# Altium footprint library SON.PcbLib: 52 footprints (part 3 of 4)
Each footprint in its own frame and in the unit in brackets; x right, y up, seen from the top. Pads: shape width x height; smd on the part's side, far side on the other; paste and mask are expansions set on the pad; w line width, h text height; cw(c..) or ccw(c..) is an arc to the next point about the centre after c.
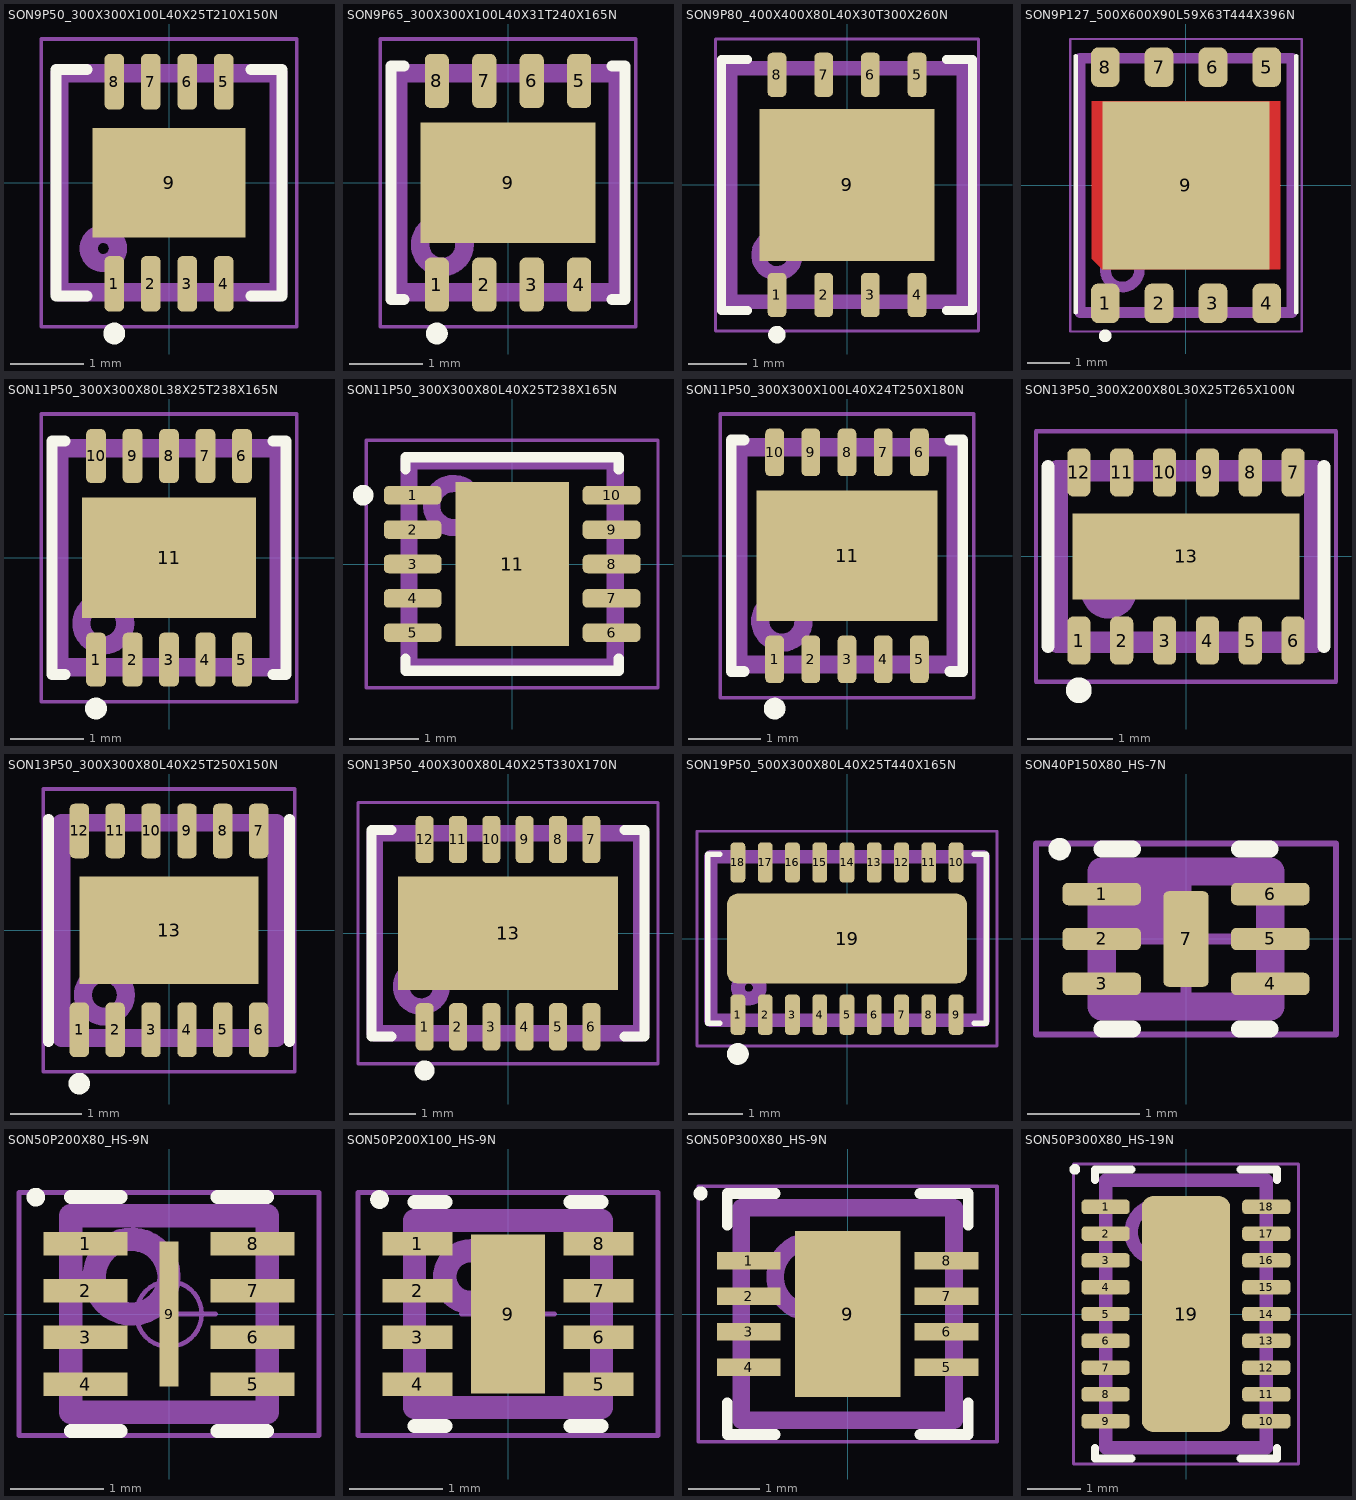
[diagram p2: the footprints below, top view; thin cyan lines are the x and y axes]

## SON9P50_300X300X100L40X25T210X150N [mm] "Small Outline No-Lead (SON with Tab), 0.50 mm pitch; 8 pin, 3.00 mm L X 3.00 mm W X 1.00 mm H body"
height 1
pads (9):
  rrect52% 0.27x0.76 smd: 1(-0.75,-1.385) 2(-0.25,-1.385) 3(0.25,-1.385) 4(0.75,-1.385) 5(0.75,1.385) 6(0.25,1.385) 7(-0.25,1.385) 8(-0.75,1.385)
  rect 2.1x1.5 smd paste-2.1: 9(0,0)
Top Overlay:
  circle w0.15: c-0.75,-2.065 r0.075
  lines w0.15: -1.125,-1.55 -1.55,-1.55 -1.55,1.55 -1.125,1.55 ; 1.125,-1.55 1.55,-1.55 1.55,1.55 1.125,1.55
Top Paste:
  region: -0.11,0.11 -0.94,0.11 -0.94,0.64 -0.11,0.64
  region: -0.11,-0.64 -0.94,-0.64 -0.94,-0.11 -0.11,-0.11
  region: 0.94,0.11 0.11,0.11 0.11,0.64 0.94,0.64
  region: 0.94,-0.64 0.11,-0.64 0.11,-0.11 0.94,-0.11
Top Assembly:
  circle w0.25: c-0.9,-0.9 r0.2
  lines w0.25: -1.5,-1.5 1.5,-1.5 1.5,1.5 -1.5,1.5 -1.5,-1.5
  text ".Designator" at -3.378,-0.339 h1.5
Top Courtyard:
  circle w0.05: c0,0 r0.25
  lines w0.05: -0.35,0 0.35,0 ; 0,-0.35 0,0.35 ; -1.75,-1.97 1.75,-1.97 1.75,1.97 -1.75,1.97 -1.75,-1.97
3D body "SON9P50_300X300X100L40X25T210X150.STEP": height 1, standoff 0, extent -1.5,-1.55 1.5,1.55

## SON9P65_300X300X100L40X31T240X165N [mm] "Small Outline No-Lead (SON with Tab), 0.65 mm pitch; 8 pin, 3.00 mm L X 3.00 mm W X 1.00 mm H body"
height 1
pads (9):
  rrect48% 0.33x0.74 smd: 1(-0.975,-1.395) 2(-0.325,-1.395) 3(0.325,-1.395) 4(0.975,-1.395) 5(0.975,1.395) 6(0.325,1.395) 7(-0.325,1.395) 8(-0.975,1.395)
  rect 2.4x1.65 smd paste-2.4: 9(0,0)
Top Overlay:
  circle w0.15: c-0.975,-2.065 r0.075
  lines w0.15: -1.425,-1.6 -1.6,-1.6 -1.6,1.6 -1.425,1.6 ; 1.425,-1.6 1.6,-1.6 1.6,1.6 1.425,1.6
Top Paste:
  region: 1.08,-0.7 0.12,-0.7 0.12,-0.12 1.08,-0.12
  region: 1.08,0.12 0.12,0.12 0.12,0.7 1.08,0.7
  region: -0.12,-0.7 -1.08,-0.7 -1.08,-0.12 -0.12,-0.12
  region: -0.12,0.12 -1.08,0.12 -1.08,0.7 -0.12,0.7
Top Assembly:
  circle w0.254: c-0.9,-0.85 r0.304
  lines w0.25: -1.5,-1.5 -1.5,1.5 1.5,1.5 1.5,-1.5 -1.5,-1.5
  text ".Designator" at -3.378,-0.339 h1.5
Top Courtyard:
  circle w0.05: c0,0 r0.25
  lines w0.05: -0.35,0 0.35,0 ; 0,-0.35 0,0.35 ; -1.75,-1.97 -1.75,1.97 1.75,1.97 1.75,-1.97 -1.75,-1.97
3D body "SON9P65_300X300X100L40X31T240X165.STEP": height 1, standoff 0, extent -1.5,-1.55 1.5,1.55

## SON9P80_400X400X80L40X30T300X260N [mm] "Small Outline No-Lead (SON with Tab), 0.80 mm pitch; 8 pin, 4.00 mm L X 4.00 mm W X 0.80 mm H body"
height 0.8
pads (9):
  rrect50% 0.32x0.76 smd: 1(-1.2,-1.885) 2(-0.4,-1.885) 3(0.4,-1.885) 4(1.2,-1.885) 5(1.2,1.885) 6(0.4,1.885) 7(-0.4,1.885) 8(-1.2,1.885)
  rect 3x2.6 smd paste-3: 9(0,0)
Top Overlay:
  circle w0.15: c-1.2,-2.565 r0.075
  lines w0.15: -1.7,-2.15 -2.15,-2.15 -2.15,2.15 -1.7,2.15 ; 1.7,-2.15 2.15,-2.15 2.15,2.15 1.7,2.15
Top Paste:
  region: -0.19,0.19 -1.31,0.19 -1.31,1.11 -0.19,1.11
  region: -0.19,-1.11 -1.31,-1.11 -1.31,-0.19 -0.19,-0.19
  region: 1.31,0.19 0.19,0.19 0.19,1.11 1.31,1.11
  region: 1.31,-1.11 0.19,-1.11 0.19,-0.19 1.31,-0.19
Top Assembly:
  circle w0.25: c-1.2,-1.2 r0.316
  lines w0.25: -2,-2 2,-2 2,2 -2,2 -2,-2
  text ".Designator" at -3.378,-0.339 h1.5
Top Courtyard:
  circle w0.05: c0,0 r0.25
  lines w0.05: -0.35,0 0.35,0 ; 0,-0.35 0,0.35 ; -2.25,-2.5 2.25,-2.5 2.25,2.5 -2.25,2.5 -2.25,-2.5
3D body "SON9P80_400X400X80L40X30T300X260.STEP": height 0.8, standoff 0, extent -2,-2.05 2,2.05

## SON9P127_500X600X90L59X63T444X396N [mm] "Small Outline No-Lead (SON with Tab), 1.27 mm pitch; 8 pin, 5.00 mm L X 6.00 mm W X 0.90 mm H body"
height 0.9
pads (9):
  rrect50% 0.68x0.93 smd: 1(-1.905,-2.785) 2(-0.635,-2.785) 3(0.635,-2.785) 4(1.905,-2.785) 5(1.905,2.785) 6(0.635,2.785) 7(-0.635,2.785) 8(-1.905,2.785)
  rect 3.945x3.962 smd paste-3.962 mask-3.962: 9(0,0)
Top Layer:
  region: 2.222,-1.981 -1.973,-1.981 -2.222,-1.731 -2.222,1.981 2.222,1.981
Top Overlay:
  circle w0.15: c-1.905,-3.55 r0.075
  lines w0.1: -2.6,-3 -2.6,3.05 ; 2.6,-3 2.6,3.05
Top Paste:
  region: 1.915,-1.675 0.305,-1.675 0.305,-0.305 1.915,-0.305
  region: 1.915,0.305 0.305,0.305 0.305,1.675 1.915,1.675
  region: -0.305,-1.675 -1.915,-1.675 -1.915,-0.305 -0.305,-0.305
  region: -0.305,0.305 -1.915,0.305 -1.915,1.675 -0.305,1.675
Top Solder:
  region: 2.222,-1.981 -1.973,-1.981 -2.222,-1.731 -2.222,1.981 2.222,1.981
Top Assembly:
  circle w0.25: c-1.5,-2 r0.4
  lines w0.25: -2.5,-3 -2.5,3 2.5,3 2.5,-3 -2.5,-3
  text ".Designator" at -2.2,-0.3 h1.5
Top Courtyard:
  circle w0.05: c0,0 r0.25
  lines w0.05: -0.35,0 0.35,0 ; 0,-0.35 0,0.35 ; -2.73,-3.45 -2.73,3.45 2.73,3.45 2.73,-3.45 -2.73,-3.45
3D body "SON9P127_500X600X90L59X63T444X396.STEP": height 0.9, standoff 0, extent -2.5,-3.05 2.5,3.05

## SON11P50_300X300X80L38X25T238X165N [mm] "Small Outline No-Lead (SON with Tab), 0.50 mm pitch; 10 pin, 3.00 mm L X 3.00 mm W X 0.80 mm H body"
height 0.8
pads (11):
  rrect52% 0.27x0.74 smd: 1(-1,-1.395) 2(-0.5,-1.395) 3(0,-1.395) 4(0.5,-1.395) 5(1,-1.395) 6(1,1.395) 7(0.5,1.395) 8(0,1.395) 9(-0.5,1.395) 10(-1,1.395)
  rect 2.38x1.65 smd paste-2.38: 11(0,0)
Top Overlay:
  circle w0.15: c-1,-2.065 r0.075
  lines w0.15: -1.425,-1.6 -1.6,-1.6 -1.6,1.6 -1.425,1.6 ; 1.425,-1.6 1.6,-1.6 1.6,1.6 1.425,1.6
Top Paste:
  region: -0.12,0.12 -1.07,0.12 -1.07,0.7 -0.12,0.7
  region: -0.12,-0.7 -1.07,-0.7 -1.07,-0.12 -0.12,-0.12
  region: 1.07,0.12 0.12,0.12 0.12,0.7 1.07,0.7
  region: 1.07,-0.7 0.12,-0.7 0.12,-0.12 1.07,-0.12
Top Assembly:
  circle w0.25: c-0.9,-0.9 r0.3
  lines w0.25: -1.5,-1.5 1.5,-1.5 1.5,1.5 -1.5,1.5 -1.5,-1.5
  text ".Designator" at -3.378,-0.339 h1.5
Top Courtyard:
  circle w0.05: c0,0 r0.25
  lines w0.05: -0.35,0 0.35,0 ; 0,-0.35 0,0.35 ; -1.75,-1.97 1.75,-1.97 1.75,1.97 -1.75,1.97 -1.75,-1.97
3D body "SON11P50_300X300X80L38X25T238X165.STEP": height 0.8, standoff 0, extent -1.5,-1.55 1.5,1.55

## SON11P50_300X300X80L40X25T238X165N [mm] "Small Outline No-Lead (SON with Tab), 0.50 mm pitch; 10 pin, 3.00 mm L X 3.00 mm W X 0.80 mm H body"
height 0.8
pads (11):
  rrect52% 0.84x0.27 smd: 1(-1.445,1) 2(-1.445,0.5) 3(-1.445,0) 4(-1.445,-0.5) 5(-1.445,-1) 6(1.445,-1) 7(1.445,-0.5) 8(1.445,0) 9(1.445,0.5) 10(1.445,1)
  rect 1.65x2.38 smd paste-2.38: 11(0,0)
Top Overlay:
  circle w0.15: c-2.165,1 r0.075
  lines w0.15: -1.55,-1.375 -1.55,-1.55 1.55,-1.55 1.55,-1.375 ; -1.55,1.375 -1.55,1.55 1.55,1.55 1.55,1.375
Top Paste:
  region: 0.12,0.12 0.12,1.07 0.7,1.07 0.7,0.12
  region: -0.7,0.12 -0.7,1.07 -0.12,1.07 -0.12,0.12
  region: 0.12,-1.07 0.12,-0.12 0.7,-0.12 0.7,-1.07
  region: -0.7,-1.07 -0.7,-0.12 -0.12,-0.12 -0.12,-1.07
Top Assembly:
  circle w0.25: c-0.85,0.85 r0.32
  lines w0.25: -1.5,-1.5 1.5,-1.5 1.5,1.5 -1.5,1.5 -1.5,-1.5
  text ".Designator" at -3.378,-0.339 h1.5
Top Courtyard:
  circle w0.05: c0,0 r0.25
  lines w0.05: -0.35,0 0.35,0 ; 0,-0.35 0,0.35 ; -2.12,-1.8 2.12,-1.8 2.12,1.8 -2.12,1.8 -2.12,-1.8
3D body "SON11P50_300X300X80L40X25T238X165.STEP": height 0.8, standoff 0, extent -1.55,-1.5 1.55,1.5

## SON11P50_300X300X100L40X24T250X180N [mm] "Small Outline No-Lead (SON with Tab), 0.50 mm pitch; 10 pin, 3.00 mm L X 3.00 mm W X 1.00 mm H body"
height 1
pads (11):
  rrect54% 0.26x0.66 smd: 1(-1,-1.43) 2(-0.5,-1.43) 3(0,-1.43) 4(0.5,-1.43) 5(1,-1.43) 6(1,1.43) 7(0.5,1.43) 8(0,1.43) 9(-0.5,1.43) 10(-1,1.43)
  rect 2.5x1.8 smd paste-2.5: 11(0,0)
Top Overlay:
  circle w0.15: c-1,-2.11 r0.075
  lines w0.15: -1.425,-1.6 -1.6,-1.6 -1.6,1.6 -1.425,1.6 ; 1.425,-1.6 1.6,-1.6 1.6,1.6 1.425,1.6
Top Paste:
  region: -0.13,0.13 -1.12,0.13 -1.12,0.77 -0.13,0.77
  region: -0.13,-0.77 -1.12,-0.77 -1.12,-0.13 -0.13,-0.13
  region: 1.12,0.13 0.13,0.13 0.13,0.77 1.12,0.77
  region: 1.12,-0.77 0.13,-0.77 0.13,-0.13 1.12,-0.13
Top Assembly:
  circle w0.25: c-0.9,-0.9 r0.3
  lines w0.25: -1.5,-1.5 1.5,-1.5 1.5,1.5 -1.5,1.5 -1.5,-1.5
  text ".Designator" at -3.378,-0.339 h1.5
Top Courtyard:
  circle w0.05: c0,0 r0.25
  lines w0.05: -0.35,0 0.35,0 ; 0,-0.35 0,0.35 ; -1.75,-1.96 1.75,-1.96 1.75,1.96 -1.75,1.96 -1.75,-1.96
3D body "SON11P50_300X300X100L40X24T250X180.STEP": height 1, standoff 0, extent -1.5,-1.55 1.5,1.55

## SON13P50_300X200X80L30X25T265X100N [mm] "Small Outline No-Lead (SON with Tab), 0.50 mm pitch; 12 pin, 3.00 mm L X 2.00 mm W X 0.80 mm H body"
height 0.8
pads (13):
  rrect52% 0.27x0.56 smd: 1(-1.25,-0.98) 2(-0.75,-0.98) 3(-0.25,-0.98) 4(0.25,-0.98) 5(0.75,-0.98) 6(1.25,-0.98) 7(1.25,0.98) 8(0.75,0.98) 9(0.25,0.98) 10(-0.25,0.98) 11(-0.75,0.98) 12(-1.25,0.98)
  rect 2.65x1 smd paste-2.65: 13(0,0)
Top Overlay:
  circle w0.15: c-1.25,-1.56 r0.075
  lines w0.15: -1.61,-1.05 -1.61,1.05 ; 1.61,-1.05 1.61,1.05
Top Paste:
  region: 1.255,-0.355 0.075,-0.355 0.075,0.355 1.255,0.355
  region: -0.075,-0.355 -1.255,-0.355 -1.255,0.355 -0.075,0.355
Top Assembly:
  circle w0.25: c-0.9,-0.4 r0.2
  lines w0.25: -1.5,-1 -1.5,1 1.5,1 1.5,-1 -1.5,-1
  text ".Designator" at 0,0 h1.5
Top Courtyard:
  circle w0.05: c0,0 r0.25
  lines w0.05: -0.35,0 0.35,0 ; 0,-0.35 0,0.35 ; -1.75,-1.46 -1.75,1.46 1.75,1.46 1.75,-1.46 -1.75,-1.46
3D body "SON13P50_300X200X80L30X25T265X100.STEP": height 0.8, standoff 0, extent -1.5,-1.05 1.5,1.05

## SON13P50_300X300X80L40X25T250X150N [mm] "Small Outline No-Lead (SON with Tab), 0.50 mm pitch; 12 pin, 3.00 mm L X 3.00 mm W X 0.80 mm H body"
height 0.8
pads (13):
  rrect52% 0.27x0.76 smd: 1(-1.25,-1.385) 2(-0.75,-1.385) 3(-0.25,-1.385) 4(0.25,-1.385) 5(0.75,-1.385) 6(1.25,-1.385) 7(1.25,1.385) 8(0.75,1.385) 9(0.25,1.385) 10(-0.25,1.385) 11(-0.75,1.385) 12(-1.25,1.385)
  rect 2.5x1.5 smd paste-2.5: 13(0,0)
Top Overlay:
  circle w0.15: c-1.25,-2.135 r0.075
  lines w0.15: -1.68,-1.55 -1.68,1.55 ; 1.68,-1.55 1.68,1.55
Top Paste:
  region: 1.14,-0.64 0.11,-0.64 0.11,-0.11 1.14,-0.11
  region: 1.14,0.11 0.11,0.11 0.11,0.64 1.14,0.64
  region: -0.11,-0.64 -1.14,-0.64 -1.14,-0.11 -0.11,-0.11
  region: -0.11,0.11 -1.14,0.11 -1.14,0.64 -0.11,0.64
Top Assembly:
  circle w0.25: c-0.9,-0.9 r0.3
  lines w0.25: -1.5,-1.5 -1.5,1.5 1.5,1.5 1.5,-1.5 -1.5,-1.5
  text ".Designator" at -3.378,-0.339 h1.5
Top Courtyard:
  circle w0.05: c0,0 r0.25
  lines w0.05: -0.35,0 0.35,0 ; 0,-0.35 0,0.35 ; -1.75,-1.97 -1.75,1.97 1.75,1.97 1.75,-1.97 -1.75,-1.97
3D body "SON13P50_300X300X80L40X25T250X150.STEP": height 0.8, standoff 0, extent -1.5,-1.55 1.5,1.55

## SON13P50_400X300X80L40X25T330X170N [mm] "Small Outline No-Lead (SON with Tab), 0.50 mm pitch; 12 pin, 4.00 mm L X 3.00 mm W X 0.80 mm H body"
height 0.8
pads (13):
  rrect52% 0.27x0.71 smd: 1(-1.25,-1.405) 2(-0.75,-1.405) 3(-0.25,-1.405) 4(0.25,-1.405) 5(0.75,-1.405) 6(1.25,-1.405) 7(1.25,1.405) 8(0.75,1.405) 9(0.25,1.405) 10(-0.25,1.405) 11(-0.75,1.405) 12(-1.25,1.405)
  rect 3.3x1.7 smd paste-3.3: 13(0,0)
Top Overlay:
  circle w0.15: c-1.25,-2.06 r0.075
  lines w0.15: -1.75,-1.55 -2.05,-1.55 -2.05,1.55 -1.75,1.55 ; 1.75,-1.55 2.05,-1.55 2.05,1.55 1.75,1.55
Top Paste:
  region: -0.125,0.125 -1.525,0.125 -1.525,0.725 -0.125,0.725
  region: -0.125,-0.725 -1.525,-0.725 -1.525,-0.125 -0.125,-0.125
  region: 1.525,0.125 0.125,0.125 0.125,0.725 1.525,0.725
  region: 1.525,-0.725 0.125,-0.725 0.125,-0.125 1.525,-0.125
Top Assembly:
  circle w0.25: c-1.3,-0.8 r0.302
  lines w0.25: -2,-1.5 2,-1.5 2,1.5 -2,1.5 -2,-1.5
  text ".Designator" at -3.378,-0.339 h1.5
Top Courtyard:
  circle w0.05: c0,0 r0.25
  lines w0.05: -0.35,0 0.35,0 ; 0,-0.35 0,0.35 ; -2.25,-1.96 2.25,-1.96 2.25,1.96 -2.25,1.96 -2.25,-1.96
3D body "SON13P50_400X300X80L40X25T330X170.STEP": height 0.8, standoff 0, extent -2,-1.55 2,1.55

## SON19P50_500X300X80L40X25T440X165N [mm] "Small Outline No-Lead (SON with Tab), 0.50 mm pitch; 18 pin, 5.00 mm L X 3.00 mm W X 0.80 mm H body"
height 0.8
pads (19):
  rrect52% 0.27x0.74 smd: 1(-2,-1.395) 2(-1.5,-1.395) 3(-1,-1.395) 4(-0.5,-1.395) 5(0,-1.395) 6(0.5,-1.395) 7(1,-1.395) 8(1.5,-1.395) 9(2,-1.395) 10(2,1.395) 11(1.5,1.395) 12(1,1.395) 13(0.5,1.395) 14(0,1.395) 15(-0.5,1.395) 16(-1,1.395) 17(-1.5,1.395) 18(-2,1.395)
  rrect24% 4.4x1.65 smd paste-4.4: 19(0,0)
Top Overlay:
  circle w0.2: c-2,-2.115 r0.1
  lines w0.1: -2.335,-1.55 -2.55,-1.55 -2.55,1.55 -2.335,1.55 ; 2.335,-1.55 2.55,-1.55 2.55,1.55 2.335,1.55
Top Paste:
  region: 1.975,-0.485 0.115,-0.485 0.115,0.485 1.975,0.485
  region: -0.115,-0.485 -1.975,-0.485 -1.975,0.485 -0.115,0.485
Top Assembly:
  circle w0.25: c-1.8,-0.9 r0.2
  lines w0.25: -2.5,-1.5 -2.5,1.5 2.5,1.5 2.5,-1.5 -2.5,-1.5
  text ".Designator" at -2.1,-0.3 h1.5
Top Courtyard:
  circle w0.05: c0,0 r0.25
  lines w0.05: -0.35,0 0.35,0 ; 0,-0.35 0,0.35 ; -2.75,-1.97 -2.75,1.97 2.75,1.97 2.75,-1.97 -2.75,-1.97
3D body "SON19P50_500X300X80L40X25T440X165.STEP": height 0.8, standoff 0, extent -2.5,-1.55 2.5,1.55

## SON40P150X80_HS-7N [mm] "SON, 6-Leads, Body 1.20x1.50mm, Pitch 0.40mm, Thermal Pad 0.85x0.40mm, IPC Medium Density"
height 0.8
pads (7):
  rrect50% 0.7x0.2 smd: 1(-0.75,0.4) 2(-0.75,0) 3(-0.75,-0.4) 4(0.75,-0.4) 5(0.75,0) 6(0.75,0.4)
  rrect22% 0.4x0.85 smd: 7(0,0)
Top Overlay:
  circle w0.1: c-1.125,0.8 r0.05
  lines w0.15: -0.75,-0.8 -0.475,-0.8 ; -0.75,0.8 -0.475,0.8 ; 0.475,-0.8 0.75,-0.8 ; 0.475,0.8 0.75,0.8
Top Assembly:
  rectangle: -0.75,0 0,0.6
  lines w0.25: -0.75,-0.6 0.75,-0.6 0.75,0.6 -0.75,0.6 -0.75,-0.6
  text ".Designator" at -3.378,1.211 h1.5
Top Courtyard:
  lines w0.05: -1.335,-0.85 1.335,-0.85 1.335,0.85 -1.335,0.85 -1.335,-0.85
  lines w0.1: -0.5,0 0.5,0 ; 0,-0.5 0,0.5
3D body "SON40P150X80_HS-7N.step": height 0.8, standoff 0, extent -0.751,-0.6 0.751,0.6

## SON50P200X80_HS-9N [mm] "SON, 8-Leads, Body 2.00x2.00mm, Pitch 0.50mm, Thermal Pad 1.55x0.20mm, IPC Medium Density"
height 0.8
pads (9):
  rect 0.9x0.25 smd: 1(-0.895,0.75) 2(-0.895,0.25) 3(-0.895,-0.25) 4(-0.895,-0.75) 5(0.895,-0.75) 6(0.895,-0.25) 7(0.895,0.25) 8(0.895,0.75)
  rect 0.2x1.55 smd: 9(0,0)
Top Overlay:
  circle w0.1: c-1.425,1.25 r0.05
  lines w0.15: -1.05,-1.25 -0.52,-1.25 ; -1.05,1.25 -0.52,1.25 ; 0.52,-1.25 1.05,-1.25 ; 0.52,1.25 1.05,1.25
Top Assembly:
  circle w0.25: c-0.4,0.4 r0.4
  lines w0.25: -1.05,-1.05 -1.05,1.05 1.05,1.05 1.05,-1.05 -1.05,-1.05
  text ".Designator" at 0,-0.418 h1.5
Top Courtyard:
  circle w0.05: c0,0 r0.35
  lines w0.05: -0.5,0 0.5,0 ; 0,-0.5 0,0.5 ; -1.605,-1.3 -1.605,1.3 1.605,1.3 1.605,-1.3 -1.605,-1.3
3D body "SON50P200X80_HS-9N.step": height 0.8, standoff 0, extent -1.051,-1.05 1.051,1.05

## SON50P200X100_HS-9N [mm] "SON, 8-Leads, Body 2.00x2.00mm, Pitch 0.50mm, Thermal Pad 1.70x0.79mm, IPC Medium Density"
height 1
pads (9):
  rect 0.75x0.25 smd: 1(-0.97,0.75) 2(-0.97,0.25) 3(-0.97,-0.25) 4(-0.97,-0.75) 5(0.97,-0.75) 6(0.97,-0.25) 7(0.97,0.25) 8(0.97,0.75)
  rect 0.79x1.7 smd: 9(0,0)
Top Overlay:
  circle w0.1: c-1.375,1.225 r0.05
  lines w0.15: -1,-1.2 -0.67,-1.2 ; -1,1.2 -0.67,1.2 ; 0.67,-1.2 1,-1.2 ; 0.67,1.2 1,1.2
Top Assembly:
  circle w0.25: c-0.4,0.4 r0.276
  lines w0.25: -1,-1 1,-1 1,1 -1,1 -1,-1
  text ".Designator" at -0.1,-0.612 h1
Top Courtyard:
  circle w0.05: c0,0 r0.35
  lines w0.05: -0.5,0 0.5,0 ; 0,-0.5 0,0.5 ; -1.605,-1.3 1.605,-1.3 1.605,1.3 -1.605,1.3 -1.605,-1.3
3D body "SON50P200X100_HS-9N.step": height 1, standoff 0, extent -1.001,-1 1.001,1

## SON50P300X80_HS-9N [mm] "SON, 8-Leads, Body 3.00x3.00mm, Pitch 0.50mm, Thermal Pad 2.34x1.49mm, IPC Medium Density"
height 0.8
pads (9):
  rect 0.9x0.25 smd: 1(-1.395,0.75) 2(-1.395,0.25) 3(-1.395,-0.25) 4(-1.395,-0.75) 5(1.395,-0.75) 6(1.395,-0.25) 7(1.395,0.25) 8(1.395,0.75)
  rect 1.49x2.34 smd: 9(0,0)
Top Overlay:
  circle w0.1: c-2.075,1.7 r0.05
  lines w0.15: -1.7,-1.25 -1.7,-1.7 -1.02,-1.7 ; -1.7,1.25 -1.7,1.7 -1.02,1.7 ; 1.02,-1.7 1.7,-1.7 1.7,-1.25 ; 1.02,1.7 1.7,1.7 1.7,1.25
Top Assembly:
  circle w0.25: c-0.525,0.525 r0.5
  lines w0.25: -1.5,-1.5 1.5,-1.5 1.5,1.5 -1.5,1.5 -1.5,-1.5
  text ".Designator" at -1.3,-0.918 h1.5
Top Courtyard:
  lines w0.05: -2.105,-1.8 2.105,-1.8 2.105,1.8 -2.105,1.8 -2.105,-1.8
  lines w0.1: -0.5,0 0.5,0 ; 0,-0.5 0,0.5
3D body "SON50P300X80_HS-9N.step": height 0.8, standoff 0, extent -1.501,-1.5 1.501,1.5

## SON50P300X80_HS-19N [mm] "SON, 18-Leads, Body 5.00x3.00mm, Pitch 0.50mm, Thermal Pad 4.40x1.49mm, IPC Medium Density"
height 0.8
pads (19):
  rrect50% 0.9x0.27 smd: 1(-1.5,2) 2(-1.5,1.5) 3(-1.5,1) 4(-1.5,0.5) 5(-1.5,0) 6(-1.5,-0.5) 7(-1.5,-1) 8(-1.5,-1.5) 9(-1.5,-2) 10(1.5,-2) 11(1.5,-1.5) 12(1.5,-1) 13(1.5,-0.5) 14(1.5,0) 15(1.5,0.5) 16(1.5,1) 17(1.5,1.5) 18(1.5,2)
  rrect25% 1.65x4.4 smd: 19(0,0)
Top Overlay:
  circle w0.1: c-2.075,2.7 r0.05
  lines w0.15: -1.7,-2.5 -1.7,-2.7 -1.02,-2.7 ; -1.7,2.5 -1.7,2.7 -1.02,2.7 ; 1.02,-2.7 1.7,-2.7 1.7,-2.5 ; 1.02,2.7 1.7,2.7 1.7,2.5
Top Assembly:
  circle w0.25: c-0.525,1.525 r0.5
  lines w0.25: -1.5,-2.5 -1.5,2.5 1.5,2.5 1.5,-2.5 -1.5,-2.5
  text ".Designator" at -3.378,-0.339 h1.5
Top Courtyard:
  lines w0.05: -2.1,-2.8 -2.1,2.8 2.1,2.8 2.1,-2.8 -2.1,-2.8
  lines w0.1: -0.5,0 0.5,0 ; 0,-0.5 0,0.5
3D body "SON50P300X80_HS-19N.step": height 0.8, standoff 0, extent -1.501,-2.5 1.501,2.5